# Altium footprint library WQFN-16(4.0X3.5).PcbLib: 1 footprints
Each footprint in its own frame and in the unit in brackets; x right, y up, seen from the top. Pads: shape width x height; smd on the part's side, far side on the other; paste and mask are expansions set on the pad; w line width, h text height; cw(c..) or ccw(c..) is an arc to the next point about the centre after c.
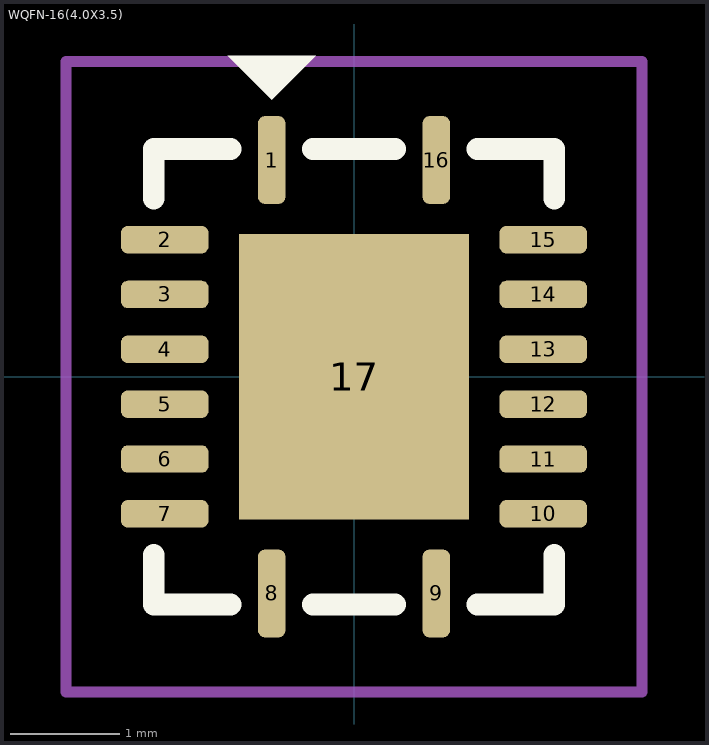
[diagram p0: the footprint, top view; thin cyan lines are the x and y axes]

## WQFN-16(4.0X3.5) [mm]
pads (17):
  rrect50% 0.25x0.8 smd: 1(-0.75,1.975) 8(-0.75,-1.975) 9(0.75,-1.975) 16(0.75,1.975)
  rrect50% 0.8x0.25 smd: 2(-1.725,1.25) 3(-1.725,0.75) 4(-1.725,0.25) 5(-1.725,-0.25) 6(-1.725,-0.75) 7(-1.725,-1.25) 10(1.725,-1.25) 11(1.725,-0.75) 12(1.725,-0.25) 13(1.725,0.25) 14(1.725,0.75) 15(1.725,1.25)
  rect 2.1x2.6 smd paste-2: 17(0,0)
Top Overlay:
  region: -1.15,2.925 -0.35,2.925 -0.75,2.525
  lines w0.2: -1.825,-1.625 -1.825,-2.075 -1.125,-2.075 ; -1.825,1.625 -1.825,2.075 -1.125,2.075 ; -0.375,-2.075 0.375,-2.075 ; -0.375,2.075 0.375,2.075 ; 1.125,-2.075 1.825,-2.075 1.825,-1.625 ; 1.125,2.075 1.825,2.075 1.825,1.625
Top Paste:
  region: 0.95,1.2 -0.95,1.2 -0.95,0.1 0.95,0.1
  region: 0.95,-1.2 -0.95,-1.2 -0.95,-0.1 0.95,-0.1
Top Courtyard:
  lines w0.1: -2.625,-2.875 2.625,-2.875 2.625,2.875 -2.625,2.875 -2.625,-2.875
3D body "WQFN16_RRK_TEX.step": height 0.81, standoff 0, extent -1.829,-2.07 1.829,2.07